# EAGLE library part SPARKFUN-DIGITALIC_MCP2551 (library OpenInverter_20b)
CAN transceiver
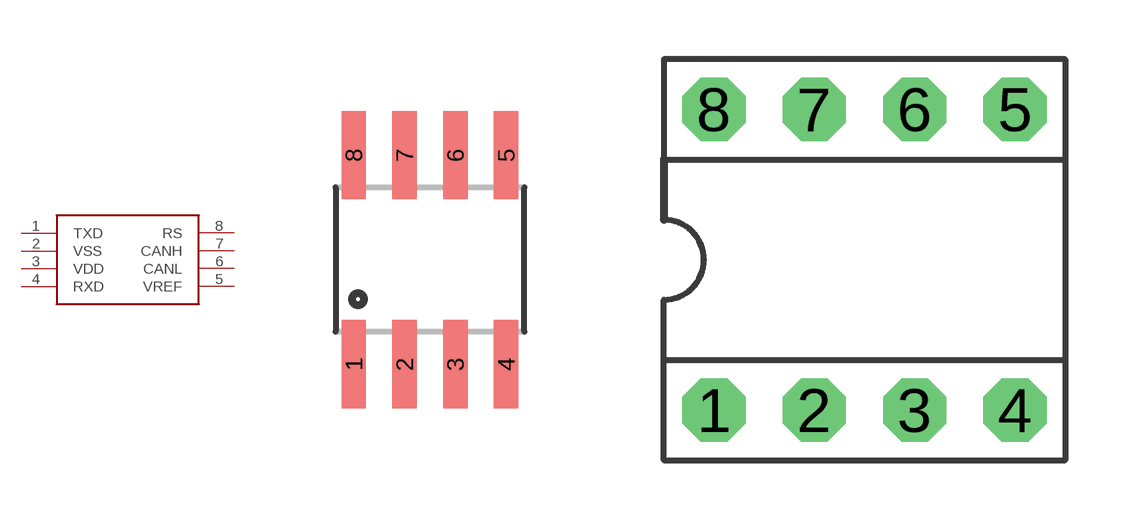
[diagram p1: symbol with the pads of SPARKFUN-DIGITALIC_SO08; footprints SPARKFUN-DIGITALIC_SO08, SPARKFUN-DIGITALIC_DIL08]

Designator prefix U

## SPARKFUN-DIGITALIC_MCP2551  [SPARKFUN-DIGITALIC_SO08]
1  TXD
2  VSS
3  VDD
4  RXD
5  VREF
6  CANL
7  CANH
8  RS

## SPARKFUN-DIGITALIC_MCP2551P  [SPARKFUN-DIGITALIC_DIL08]
Pads as for SPARKFUN-DIGITALIC_SO08

## Footprint SPARKFUN-DIGITALIC_SO08 (pad centres in mm)
Small Outline Package Fits JEDEC packages (narrow SOIC-8)
smd 0.61 x 2.21: 1 -1.905,-2.616; 2 -0.635,-2.616; 3 0.635,-2.616; 4 1.905,-2.616; 5 1.905,2.616; 6 0.635,2.616; 7 -0.635,2.616; 8 -1.905,2.616

## Footprint SPARKFUN-DIGITALIC_DIL08 (pad centres in mm)
Dual In Line
drill 0.813 pad 1.6 octagon: 1 -3.81,-3.81; 2 -1.27,-3.81; 3 1.27,-3.81; 4 3.81,-3.81; 5 3.81,3.81; 6 1.27,3.81; 7 -1.27,3.81; 8 -3.81,3.81